# EAGLE library part HEF4541BT (library NXP_By_element14_Batch_1)
Programmable timer
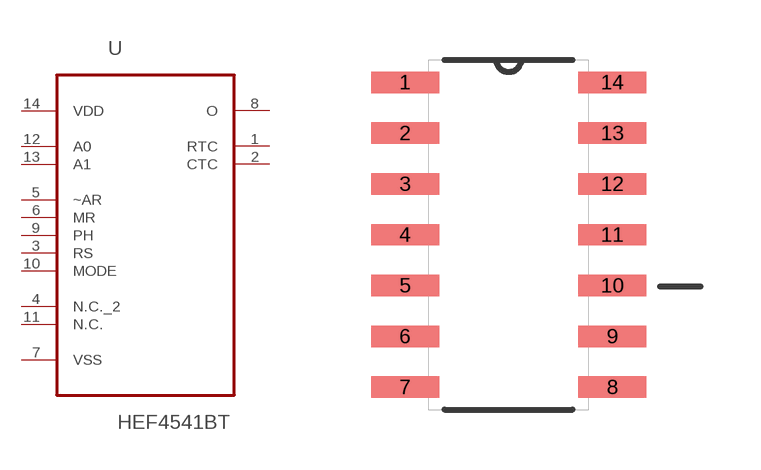
[diagram p289: symbol with the pads of SOIC127P600X175-14N; footprint SOIC127P600X175-14N]

Designator prefix U

## HEF4541BT (MPN: HEF4541BT; OC_FARNELL: 1085296; OC_NEWARK: 97K1302; P1I: o; PACKAGE: SOIC-14; SUPPLIER: NXP)  [SOIC127P600X175-14N]
1  RTC  out
2  CTC  out
3  RS  in
4  N.C._2  nc
5  ~AR  in
6  MR  in
7  VSS  pas
8  O  out
9  PH  in
10  MODE  in
11  N.C.  nc
12  A0  in
13  A1  in
14  VDD  pwr

## Footprint SOIC127P600X175-14N (pad centres in mm)
smd 1.702 x 0.533: 1 -2.591,3.81; 2 -2.591,2.54; 3 -2.591,1.27; 4 -2.591,0; 5 -2.591,-1.27; 6 -2.591,-2.54; 7 -2.591,-3.81; 8 2.591,-3.81; 9 2.591,-2.54; 10 2.591,-1.27; 11 2.591,0; 12 2.591,1.27; 13 2.591,2.54; 14 2.591,3.81